# EAGLE library part 1X15 (library Jordi)
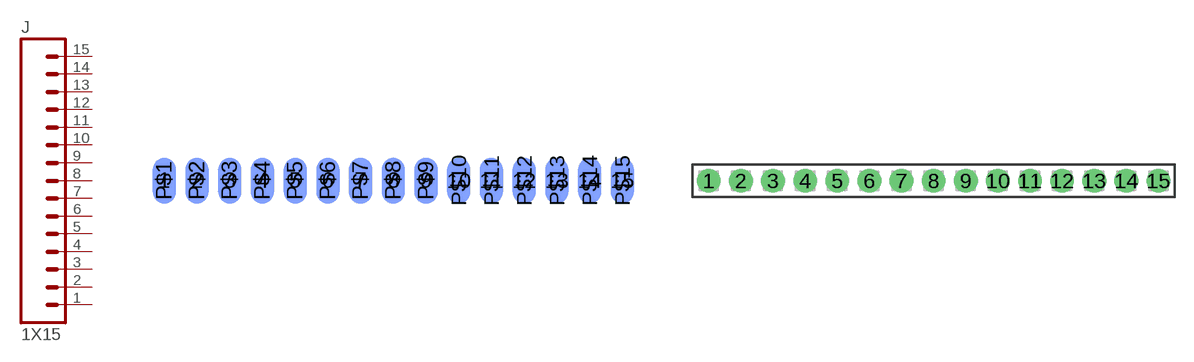
[diagram p42: symbol with the pads of CASTELLATION-15-0.1; footprints CASTELLATION-15-0.1, F-1X15-0.1-PTH]

Designator prefix J

## 1X15CAS-0.1  [CASTELLATION-15-0.1]
1  1  pas
2  2  pas
3  3  pas
4  4  pas
5  5  pas
6  6  pas
7  7  pas
8  8  pas
9  9  pas
10  10  pas
11  11  pas
12  12  pas
13  13  pas
14  14  pas
15  15  pas

## 1X15F-0.1-PTH  [F-1X15-0.1-PTH]
Pads as for CASTELLATION-15-0.1

## 1X15M-0.1-PTH  [M-1X15-0.1-PTH]
Pads as for CASTELLATION-15-0.1

## Footprint CASTELLATION-15-0.1 (pad centres in mm)
drill 1.016 pad 1.778: 1 -17.78,0; 2 -15.24,0; 3 -12.7,0; 4 -10.16,0; 5 -7.62,0; 6 -5.08,0; 7 -2.54,0; 8 0,0; 9 2.54,0; 10 5.08,0; 11 7.62,0; 12 10.16,0; 13 12.7,0; 14 15.24,0; 15 17.78,0
smd 1.778 x 3.556 bottom: P$1 -17.78,0; P$2 -15.24,0; P$3 -12.7,0; P$4 -10.16,0; P$5 -7.62,0; P$6 -5.08,0; P$7 -2.54,0; P$8 0,0; P$9 2.54,0; P$10 5.08,0; P$11 7.62,0; P$12 10.16,0; P$13 12.7,0; P$14 15.24,0; P$15 17.78,0

## Footprint F-1X15-0.1-PTH (pad centres in mm)
drill 1.016 pad 1.88: 1 -17.78,0; 2 -15.24,0; 3 -12.7,0; 4 -10.16,0; 5 -7.62,0; 6 -5.08,0; 7 -2.54,0; 8 0,0; 9 2.54,0; 10 5.08,0; 11 7.62,0; 12 10.16,0; 13 12.7,0; 14 15.24,0; 15 17.78,0

## Footprint M-1X15-0.1-PTH (pad centres in mm)
drill 1.016 pad 1.88: 1 -17.78,0; 2 -15.24,0; 3 -12.7,0; 4 -10.16,0; 5 -7.62,0; 6 -5.08,0; 7 -2.54,0; 8 0,0; 9 2.54,0; 10 5.08,0; 11 7.62,0; 12 10.16,0; 13 12.7,0; 14 15.24,0; 15 17.78,0